# Altium footprint library Modules.PcbLib: 4 footprints
Each footprint in its own frame and in the unit in brackets; x right, y up, seen from the top. Pads: shape width x height; smd on the part's side, far side on the other; paste and mask are expansions set on the pad; w line width, h text height; cw(c..) or ccw(c..) is an arc to the next point about the centre after c.
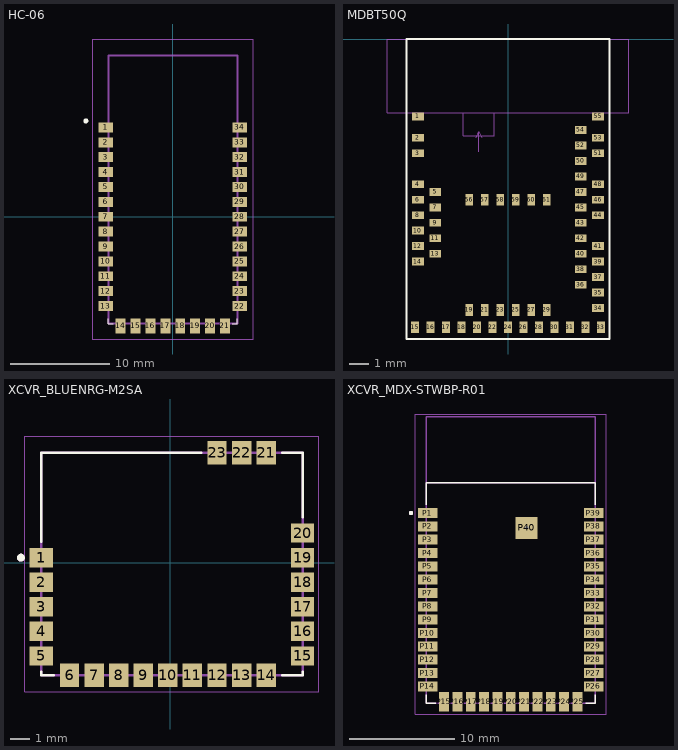
[diagram p0: the footprints below, top view; thin cyan lines are the x and y axes]

## HC-06 [mm]
pads (34):
  rect 1.5x1 smd: 1(-6.75,9) 2(-6.75,7.5) 3(-6.75,6) 4(-6.75,4.5) 5(-6.75,3) 6(-6.75,1.5) 7(-6.75,0) 8(-6.75,-1.5) 9(-6.75,-3) 10(-6.75,-4.5) 11(-6.75,-6) 12(-6.75,-7.5) 13(-6.75,-9) 22(6.75,-9) 23(6.75,-7.5) 24(6.75,-6) 25(6.75,-4.5) 26(6.75,-3) 27(6.75,-1.5) 28(6.75,0) 29(6.75,1.5) 30(6.75,3) 31(6.75,4.5) 32(6.75,6) 33(6.75,7.5) 34(6.75,9)
  rect 1x1.5 smd: 14(-5.25,-11) 15(-3.75,-11) 16(-2.25,-11) 17(-0.75,-11) 18(0.75,-11) 19(2.25,-11) 20(3.75,-11) 21(5.25,-11)
Top Overlay:
  circle w0.254: c-8.763,9.652 r0.127
  lines w0.1: -6.5,-10.295 -6.5,-10.795 -6,-10.795 ; 6,-10.795 6.5,-10.795 6.5,-10.295
Mechanical 13:
  lines w0.2: -6.5,-10.75 6.5,-10.75 6.5,16.25 -6.5,16.25 -6.5,-10.75
Mechanical 15:
  lines w0.1: -8.128,-12.319 8.128,-12.319 8.128,17.907 -8.128,17.907 -8.128,-12.319
3D body "User Library-Bluetooth HC-06_.STEP": height 2.35, standoff 0, extent -6.995,-10.743 7.025,17.267

## MDBT50Q [mm]
pads (61):
  rect 0.6x0.4 smd mask+0.051: 1(-4.65,-4) 2(-4.65,-5.1) 3(-4.65,-5.9) 4(-4.65,-7.5) 5(-3.75,-7.9) 6(-4.65,-8.3) 7(-3.75,-8.7) 8(-4.65,-9.1) 9(-3.75,-9.5) 10(-4.65,-9.9) 11(-3.75,-10.3) 12(-4.65,-10.7) 13(-3.75,-11.1) 14(-4.65,-11.5) 34(4.65,-13.9) 35(4.65,-13.1) 36(3.75,-12.7) 37(4.65,-12.3) 38(3.75,-11.9) 39(4.65,-11.5) 40(3.75,-11.1) 41(4.65,-10.7) 42(3.75,-10.3) 43(3.75,-9.5) 44(4.65,-9.1) 45(3.75,-8.7) 46(4.65,-8.3) 47(3.75,-7.9) 48(4.65,-7.5) 49(3.75,-7.1) 50(3.75,-6.3) 51(4.65,-5.9) 52(3.75,-5.5) 53(4.65,-5.1) 54(3.75,-4.7) 55(4.65,-4)
  rect 0.4x0.6 smd mask+0.051: 15(-4.8,-14.9) 16(-4,-14.9) 17(-3.2,-14.9) 18(-2.4,-14.9) 19(-2,-14) 20(-1.6,-14.9) 21(-1.2,-14) 22(-0.8,-14.9) 23(-0.4,-14) 24(0,-14.9) 25(0.4,-14) 26(0.8,-14.9) 27(1.2,-14) 28(1.6,-14.9) 29(2,-14) 30(2.4,-14.9) 31(3.2,-14.9) 32(4,-14.9) 33(4.8,-14.9) 56(-2,-8.3) 57(-1.2,-8.3) 58(-0.4,-8.3) 59(0.4,-8.3) 60(1.2,-8.3) 61(2,-8.3)
Top Overlay:
  lines w0.1: -5.25,-15.5 -5.25,0 0,0 5.25,0 5.25,-15.5 -5.25,-15.5
Mechanical 2:
  lines w0.05: -6.25,-3.8 6.25,-3.8 6.25,0 -6.25,0 -6.25,-3.8
  text "No ground pad" at -2.801,-1.775 h0.45
Mechanical 3:
  lines w0.05: -1.65,-5.098 -1.5,-4.798 ; -1.5,-5.823 -1.5,-4.798 ; -1.35,-5.098 -1.5,-4.798 ; -2.3,-5 -0.7,-5 -0.7,-3.8 -2.3,-3.8 -2.3,-5
  text "Toplayer no ground pad" at -3.4,-6.225 h0.3
3D body "MDBT50Q 3D Drawing_20180620.stp": height 2.06, standoff 0.01, extent -5.25,-15.497 5.25,0.003

## XCVR_BLUENRG-M2SA [mm]
pads (23):
  rect 1.2x1 smd: 1(-6.667,0.254) 2(-6.667,-1.016) 3(-6.667,-2.286) 4(-6.667,-3.556) 5(-6.667,-4.826) 15(6.833,-4.826) 16(6.833,-3.556) 17(6.833,-2.286) 18(6.833,-1.016) 19(6.833,0.254) 20(6.833,1.524)
  rect 1x1.2 smd: 6(-5.207,-5.826) 7(-3.937,-5.826) 8(-2.667,-5.826) 9(-1.397,-5.826) 10(-0.127,-5.826) 11(1.143,-5.826) 12(2.413,-5.826) 13(3.683,-5.826) 14(4.953,-5.826) 21(4.953,5.674) 22(3.683,5.674) 23(2.413,5.674)
Top Overlay:
  circle w0.2: c-7.717,0.254 r0.1
  lines w0.127: -6.667,-5.646 -6.667,-5.826 -6.027,-5.826 ; -6.667,1.074 -6.667,5.674 1.593,5.674 ; 5.773,-5.826 6.833,-5.826 6.833,-5.646 ; 5.773,5.674 6.833,5.674 6.833,2.344
Mechanical 13:
  circle w0.2: c-7.717,0.254 r0.1
  lines w0.127: -6.667,-5.826 6.833,-5.826 6.833,5.674 -6.667,5.674 -6.667,-5.826
Mechanical 15:
  lines w0.05: -7.517,-6.676 7.683,-6.676 7.683,6.524 -7.517,6.524 -7.517,-6.676
3D body "BLUENRG-M2SP--3DModel-STEP-29518.STEP": height 2.3, standoff 0, extent -6.623,-5.912 6.877,5.588

## XCVR_MDX-STWBP-R01 [mm]
pads (40):
  rect 1.85x0.95 smd: P1(-43.714,-56.109) P2(-43.714,-57.379) P3(-43.714,-58.649) P4(-43.714,-59.919) P5(-43.714,-61.189) P6(-43.714,-62.459) P7(-43.714,-63.729) P8(-43.714,-64.999) P9(-43.714,-66.269) P10(-43.714,-67.539) P11(-43.714,-68.809) P12(-43.714,-70.079) P13(-43.714,-71.349) P14(-43.714,-72.619) P26(-27.914,-72.619) P27(-27.914,-71.349) P28(-27.914,-70.079) P29(-27.914,-68.809) P30(-27.914,-67.539) P31(-27.914,-66.269) P32(-27.914,-64.999) P33(-27.914,-63.729) P34(-27.914,-62.459) P35(-27.914,-61.189) P36(-27.914,-59.919) P37(-27.914,-58.649) P38(-27.914,-57.379) P39(-27.914,-56.109)
  rect 0.95x1.85 smd: P15(-42.164,-74.079) P16(-40.894,-74.079) P17(-39.624,-74.079) P18(-38.354,-74.079) P19(-37.084,-74.079) P20(-35.814,-74.079) P21(-34.544,-74.079) P22(-33.274,-74.079) P23(-32.004,-74.079) P24(-30.734,-74.079) P25(-29.464,-74.079)
  rect 2.1x2.1 smd: P40(-34.314,-57.529)
via -34.288,-57.531 diameter 0.66 hole 0.33
Top Overlay:
  circle w0.2: c-45.314,-56.109 r0.1
  lines w0.127: -43.864,-73.414 -43.864,-74.229 -42.959,-74.229 ; -43.864,-55.314 -43.864,-53.229 -27.764,-53.229 -27.764,-55.314 ; -28.669,-74.229 -27.764,-74.229 -27.764,-73.414
Mechanical 13:
  circle w0.2: c-45.314,-56.109 r0.1
  lines w0.127: -43.864,-53.229 -43.864,-74.229 -27.764,-74.229 -27.764,-53.229 ; -43.864,-53.229 -27.764,-53.229 ; -43.864,-53.229 -43.864,-46.929 -27.764,-46.929 -27.764,-53.229
Mechanical 15:
  lines w0.05: -44.889,-75.254 -44.889,-46.679 -26.739,-46.679 -26.739,-75.254 -44.889,-75.254
3D body "MDX-STWBP-R01.STEP": height 3.61, standoff 0.01, extent -43.864,-74.29 -27.764,-46.99